# Altium schematic symbol library 12103C106K4Z2A.SchLib: 1 symbol
Pins are listed as number, name and electrical type; pins without a type are passive.

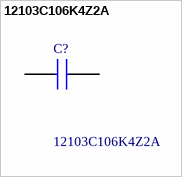
[diagram p0: symbol 12103C106K4Z2A]

## 12103C106K4Z2A
designator C?
AVX - 12103C106K4Z2A - SMD Multilayer Ceramic Capacitor, 10 F, 25 V, 1210 [3225 Metric], +/- 10%, X7R, AVX 1210 MLCC; Geometry.Height: 2.79mm; Mouser Part Number: *; Mouser Price/Stock: *; Manufacturer_Name: AVX; Manufacturer_Part_Number: 12103C106K4Z2A; Datasheet Link: https://spicat.kyocera-avx.com/product/mlcc/chartview/12103C106K4Z2A/DataSheet/X7R
footprint CAPC3225X279N
pins: 1, 2